# EAGLE library part L293B (library micromouse)
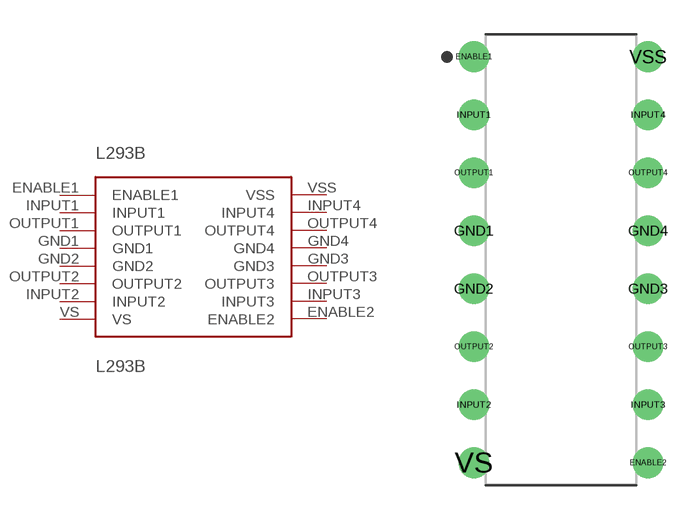
[diagram p1: symbol with the pads of L293P-DIP16; footprint L293P-DIP16]

Designator prefix L293B

## L293B  [L293P-DIP16]
ENABLE1  ENABLE1
ENABLE2  ENABLE2
GND1  GND1
GND2  GND2
GND3  GND3
GND4  GND4
INPUT1  INPUT1
INPUT2  INPUT2
INPUT3  INPUT3
INPUT4  INPUT4
OUTPUT1  OUTPUT1
OUTPUT2  OUTPUT2
OUTPUT3  OUTPUT3
OUTPUT4  OUTPUT4
VS  VS
VSS  VSS

## Footprint L293P-DIP16 (pad centres in mm)
16-DIP, 2.54 mm (0.10 in) pitch, 7.62 mm (0.30 in) span, 19.69 X 6.60 X 5.08 mm body 16-pin DIP package with 2.54 mm (0.10 in) pitch, 7.62 mm (0.30 in) span with body size 19.69 X 6.60 X 5.08 mm
drill 0.743 pad 1.343: ENABLE1 -3.81,8.89; ENABLE2 3.81,-8.89; GND1 -3.81,1.27; GND2 -3.81,-1.27; GND3 3.81,-1.27; GND4 3.81,1.27; INPUT1 -3.81,6.35; INPUT2 -3.81,-6.35; INPUT3 3.81,-6.35; INPUT4 3.81,6.35; OUTPUT1 -3.81,3.81; OUTPUT2 -3.81,-3.81; OUTPUT3 3.81,-3.81; OUTPUT4 3.81,3.81; VS -3.81,-8.89; VSS 3.81,8.89